# EAGLE library part NCP3335A (library IC)
Ultra High Accuracy, Low Iq, 500mA, LDO Regulator
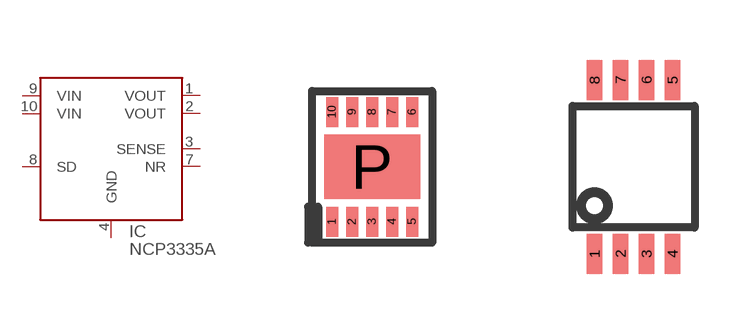
[diagram p171: symbol with the pads of DFN10; footprints DFN10, MSOP-8]

Designator prefix IC

## NCP3335A-MN  [DFN10]
1  VOUT
2  VOUT
3  SENSE
4  GND
7  NR
8  SD
9  VIN
10  VIN

## NCP3335A-DM  [MSOP-8]
1  VOUT
2  VOUT
3  SENSE
4  GND
5  NR
6  SD
7  VIN
8  VIN

## Footprint DFN10 (pad centres in mm)
DFN 10 lead package, Linear Tech
smd 0.3 x 0.75: 1 -1,-1.375; 2 -0.5,-1.375; 3 0,-1.375; 4 0.5,-1.375; 5 1,-1.375; 6 1,1.375; 7 0.5,1.375; 8 0,1.375; 9 -0.5,1.375; 10 -1,1.375
smd 2.4 x 1.6: P 0,0

## Footprint MSOP-8 (pad centres in mm)
Linear Tech MSOP-8, National Semiconductor MM, On-Semi Micro8 (DM)
smd 0.38 x 1: 1 -0.975,-2.175; 2 -0.325,-2.175; 3 0.325,-2.175; 4 0.975,-2.175; 5 0.975,2.175; 6 0.325,2.175; 7 -0.325,2.175; 8 -0.975,2.175